# EAGLE library part ADA4932-2 (library cdp)
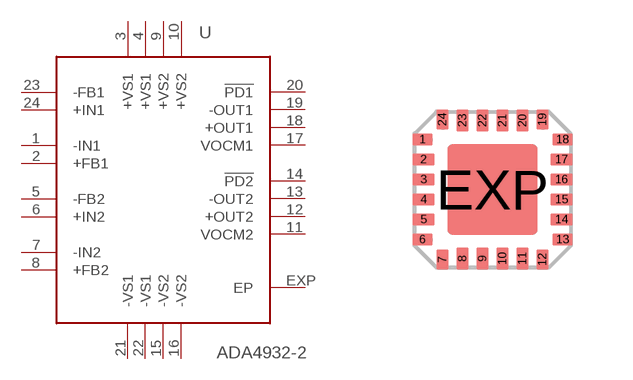
[diagram p46: symbol with the pads of LFCSP24; footprint LFCSP24]

Designator prefix U

## ADA4932-2  [LFCSP24]
1  -IN1
2  +FB1
3  +VS1
4  +VS1
5  -FB2
6  +IN2
7  -IN2
8  +FB2
9  +VS2
10  +VS2
11  VOCM2
12  +OUT2
13  -OUT2
14  !PD2
15  -VS2
16  -VS2
17  VOCM1
18  +OUT1
19  -OUT1
20  !PD1
21  -VS1
22  -VS1
23  -FB1
24  +IN1
EXP  EP

## Footprint LFCSP24 (pad centres in mm)
24-Lead Lead Frame Chip Scale Package 4 mm × 4 mm (CP-24) Source: www.analog.com .. 3832984220209AD8133_0.pdf
smd 0.5 x 0.3: 1 -1.75,1.25; 6 -1.75,-1.25; 13 1.75,-1.25; 18 1.75,1.25
smd 0.55 x 0.3: 2 -1.725,0.75; 3 -1.725,0.25; 4 -1.725,-0.25; 5 -1.725,-0.75; 14 1.725,-0.75; 15 1.725,-0.25; 16 1.725,0.25; 17 1.725,0.75
smd 0.3 x 0.5: 7 -1.25,-1.75; 12 1.25,-1.75; 19 1.25,1.75; 24 -1.25,1.75
smd 0.3 x 0.55: 8 -0.75,-1.725; 9 -0.25,-1.725; 10 0.25,-1.725; 11 0.75,-1.725; 20 0.75,1.725; 21 0.25,1.725; 22 -0.25,1.725; 23 -0.75,1.725
smd 2.25 x 2.25: EXP 0,0